# EAGLE library part 78250MC (library Murata_Transformers)
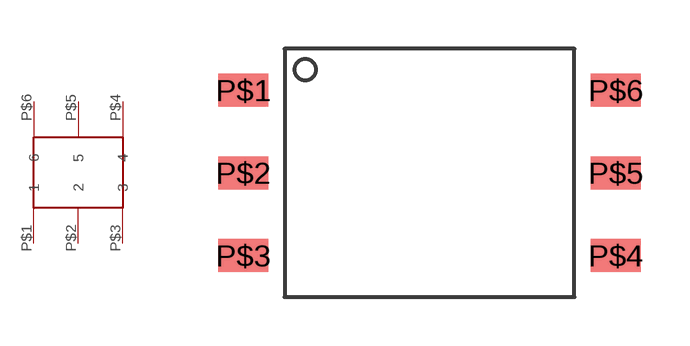
[diagram p0: symbol with the pads of 78250MC; footprint 78250MC]

Designator prefix -

## 78250MC  [78250MC]
P$1  1
P$2  2
P$3  3
P$4  4
P$5  5
P$6  6

## Footprint 78250MC (pad centres in mm)
smd 1.524 x 1.016: P$1 0,0; P$2 0,-2.54; P$3 0,-5.08; P$4 11.43,-5.08; P$5 11.43,-2.54; P$6 11.43,0